# EAGLE library part SKY13522-644LF (library SKY13522-644LF)
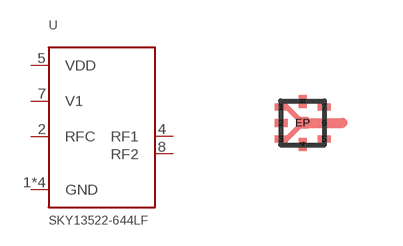
[diagram p0: symbol with the pads of QFN8; footprint QFN8]

Designator prefix -

## SKY13522-644LF  [QFN8]
1  GND
2  RFC
3  GND
4  RF1
5  VDD
6  GND
7  V1
8  RF2
EP  GND

## Footprint QFN8 (pad centres in mm)
smd 0.325 x 0.175: 1 -0.537,0.4; 3 -0.537,-0.4; 5 0.537,-0.4; 7 0.537,0.4
smd 0.325 x 0.2: 2 -0.537,0; 6 0.537,0
smd 0.2 x 0.325: 4 0,-0.537; 8 0,0.537
smd 0.29 x 0.29: EP 0,0